# Altium schematic symbol library rf_lib_schematic.SchLib: 23 symbols
Pins are listed as number, name and electrical type; pins without a type are passive.

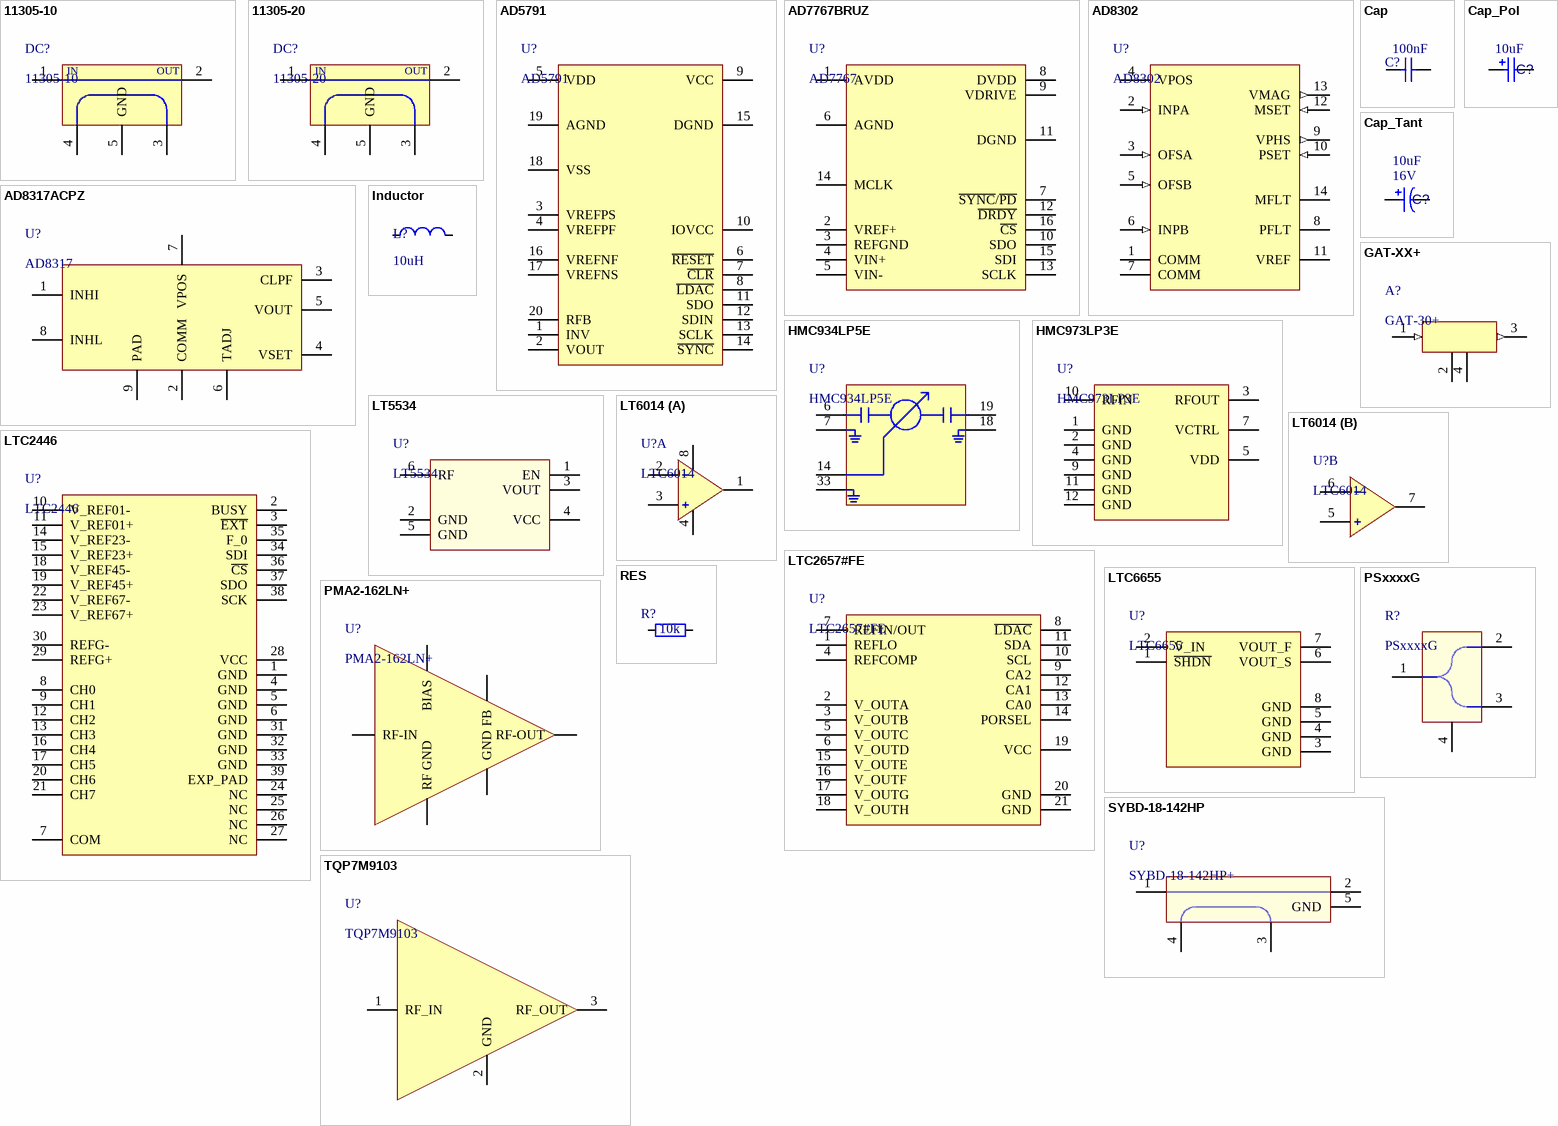
[diagram p0: symbols 11305-10 to TQP7M9103]

## 11305-10
designator DC?
Directional Coupler 10 dB
footprint 11305-10 (Xinger 11305-10 Directional Coupler)
pins: 1, 2, 3, 4, 5 GND
text: IN; OUT

## 11305-20
designator DC?
Directional Coupler 10 dB
footprint 11305-10 (Xinger 11305-10 Directional Coupler)
pins: 1, 2, 3, 4, 5 GND
text: IN; OUT

## AD5791
designator U?
20-bit DAC
footprint TSSOP20_AD (RU-20 Analog Devices Footprint)
pins: 1 INV, 2 VOUT, 3 VREFPS, 4 VREFPF, 5 VDD, 6 ~{RESET}, 7 ~{CLR}, 8 ~{LDAC}, 9 VCC, 10 IOVCC, 11 SDO, 12 SDIN, 13 SCLK, 14 ~{SYNC}, 15 DGND, 16 VREFNF, 17 VREFNS, 18 VSS, 19 AGND, 20 RFB

## AD7767BRUZ
designator U?, comment AD7767
24-Bit, 128 kSPS/64 kSPS/32 kSPS ADC
footprint TSSOP16
pins: 1 AVDD, 2 VREF+, 3 REFGND, 4 VIN+, 5 VIN-, 6 AGND, 7 ~{SYNC}/~{PD}, 8 DVDD, 9 VDRIVE, 10 SDO, 11 DGND, 12 ~{DRDY}, 13 SCLK, 14 MCLK, 15 SDI, 16 ~{CS}

## AD8302
designator U?
RF/IF Gain and Phase Detector
footprint TSSOP14 (AD tssop14)
pins: 1 COMM, 2 INPA (in), 3 OFSA (in), 4 VPOS, 5 OFSB (in), 6 INPB (in), 7 COMM, 8 PFLT, 9 VPHS (out), 10 PSET (in), 11 VREF, 12 MSET (in), 13 VMAG (out), 14 MFLT

## AD8317ACPZ
designator U?, comment AD8317
1 MHz to 10 GHz, 55 dB Log Detector/Controller
footprint ADI-CP-8-1_N (SON, 8-Leads, Body 3x2mm, Pitch 0.5mm, Thermal Pad 1.75x0.45mm, IPC Medium Density)
pins: 1 INHI, 2 COMM, 3 CLPF, 4 VSET, 5 VOUT, 6 TADJ, 7 VPOS, 8 INHL, 9 PAD

## Cap
designator C?, comment 100nF
Ceramic capacitor; Unit Price1: *; Unit Price2: *; Value: 100nF
footprint 0402_CAP (Chip Capacitor, 2-Leads, Body 0,40x0,20mm, IPC Medium Density)
footprint 0603_CAP
footprint 0805_CAP
pins: 1, 2

## Cap_Pol
designator C?, comment 10uF
Polar capacitor; Value: 10uF
pins: 1, 2
2 alternate drawings of the same symbol

## Cap_Tant
designator C?, comment Voltage: 16V  (hidden comment: 10uF)
Tantal capacitor; Value: 10uF
footprint CAP_TAN_A (Capacitor, SM Tantalum; Body 3.2 x 1.6 mm (LxW typ))
footprint CAP_TAN_B (Capacitor, SM Tantalum; Body 3.5 x 2.8 mm (LxW typ))
footprint CAP_TAN_C (Capacitor, SM Tantalum; Body 6.0 x 3.2 mm (LxW typ))
footprint CAP_TAN_D (Capacitor, SM Tantalum; Body 7.3 x 4.3 mm (LxW typ))
pins: 1, 2
2 alternate drawings of the same symbol

## GAT-XX+
designator A?, comment GAT-30+
Mini-Circuits Miniature Plastic Fixed Attenuator; Value: GAT-30+
footprint GAT-xx+ (Fixed Attenuator)
pins: 1 (in), 2, 3 (out), 4

## HMC934LP5E
designator U?
400 Deg Analog Phase Shifter
footprint LP5_5X5 (32 Lead 5 x 5 mm QfN Package: 25 mm)
pins: 6 RFIN, 7 GND, 14 VCTL, 18 GND, 19 RFOUT, 33 GND

## HMC973LP3E
designator U?
GaAs MMIC VOLTAGE-VARIABLE  ATTENUATOR
footprint LP3_3x3 (LP3 (E) PCB Land Pattern Hittite)
pins: 1 GND, 2 GND, 3 RFOUT, 4 GND, 5 VDD, 7 VCTRL, 9 GND, 10 RFIN, 11 GND, 12 GND

## Inductor
designator L?, comment 10uH
Code_IEC: 1005; Published: 8-Jun-2000; LatestRevisionDate: 29-May-2009; LatestRevisionNote: IPC-7351 Footprint Added.; PackageReference: 0402-A; Publisher: Altium Limited; PackageDescription: Chip Inductor; Code_JEITA: 0402; Value: 10uH
footprint 0402_IND
footprint 0603_IND
footprint 0805_IND ((2012 metric))
pins: 1, 2

## LT5534
designator U?
RF Power Detector
footprint SC6 (6-Lead Plastic SC70)
pins: 1 EN, 2 GND, 3 VOUT, 4 VCC, 5 GND, 6 RF

## LT6014
designator U?, comment LTC6014
Low Noise Op-Amp
footprint LT-DD-8_V (SON, 8-Leads, Body 3x3mm, Pitch 0.5mm, Thermal Pad 1.65x2.38 mm)
footprint LT-S8-8_N (SOIC, 8-Leads, Body 5x4mm, Pitch 1.27mm, IPC Medium Density)
part A pins: 1 OUTA, 2 INA-, 3 INA+, 4 V-, 8 V+
part B pins: 5 INB+, 6 INB-, 7 OUTB

## LTC2446
designator U?
24-bit ADC
footprint UHF (Linear Technology 5x7 QFN38)
footprint LT-UHF-38_N (QFN, 38-Leads, Body 7.1x5.1mm, Pitch 0.5mm, Thermal Pad 3.15x5.15mm, IPC Medium Density)
pins: 1 GND, 2 BUSY, 3 ~{EXT}, 4 GND, 5 GND, 6 GND, 7 COM, 8 CH0, 9 CH1, 10 V_REF01-, 11 V_REF01+, 12 CH2, 13 CH3, 14 V_REF23-, 15 V_REF23+, 16 CH4, 17 CH5, 18 V_REF45-, 19 V_REF45+, 20 CH6, 21 CH7, 22 V_REF67-, 23 V_REF67+, 24 NC, 25 NC, 26 NC, 27 NC, 28 VCC, 29 REFG+, 30 REFG-, 31 GND, 32 GND, 33 GND, 34 SDI, 35 F_0, 36 ~{CS}, 37 SDO, 38 SCK, 39 EXP_PAD

## LTC2657#FE
designator U?
Octal 16-bit DAC
footprint FE (Linear Technology 20 TSSOP)
pins: 1 REFLO, 2 V_OUTA, 3 V_OUTB, 4 REFCOMP, 5 V_OUTC, 6 V_OUTD, 7 REFIN/OUT, 8 ~{LDAC}, 9 CA2, 10 SCL, 11 SDA, 12 CA1, 13 CA0, 14 PORSEL, 15 V_OUTE, 16 V_OUTF, 17 V_OUTG, 18 V_OUTH, 19 VCC, 20 GND, 21 GND

## LTC6655
designator U?
Low Noise Reference Voltage
footprint MS8 (Linear Technology MSOP8)
pins: 1 ~{SHDN}, 2 V_IN, 3 GND, 4 GND, 5 GND, 6 VOUT_S, 7 VOUT_F, 8 GND

## PMA2-162LN+
designator U?
Monolithic Amplifier, Ultra Low Noise Figure
footprint MC1631
pins: 0 GND, 2 RF-IN, 3 RF GND, 4 BIAS, 5 FB, 7 RF-OUT

## PSxxxxG
designator R?
PS Series Power Splitter
footprint PS3216G
pins: 1, 2, 3, 4

## RES
designator R?, comment 10k
Resistior; Value: 10k
footprint 0402_RES
footprint 0603_RES
footprint 0805_RES ((2012 metric))
footprint 1206_RES (3216(metric))
pins: 1, 2
1 alternate drawing of the same symbol

## SYBD-18-142HP
designator U?, comment SYBD-18-142HP+
High Power Bi-Directional Coupler
footprint PL260 (SYBD-18-142HP+  CASE STYLE: JB1233)
pins: 1, 2, 3, 4, 5 GND

## TQP7M9103
designator U?
1W High Linearity Amplifier
footprint SOT-89 (TQP7M9103 TriQuint)
pins: 1 RF_IN, 2 GND, 3 RF_OUT